# Altium schematic symbol library TRINKET_PRO.Schlib: 1 symbol
Pins are listed as number, name and electrical type; pins without a type are passive.

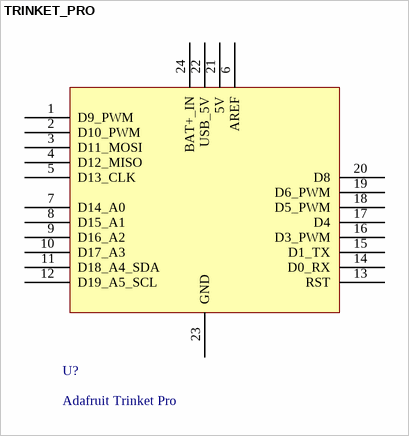
[diagram p0: symbol TRINKET_PRO]

## TRINKET_PRO
designator U?, comment Adafruit Trinket Pro
pins: 1 D9_PWM, 2 D10_PWM, 3 D11_MOSI, 4 D12_MISO, 5 D13_CLK, 6 AREF, 7 D14_A0, 8 D15_A1, 9 D16_A2, 10 D17_A3, 11 D18_A4_SDA, 12 D19_A5_SCL, 13 RST, 14 D0_RX, 15 D1_TX, 16 D3_PWM, 17 D4, 18 D5_PWM, 19 D6_PWM, 20 D8, 21 5V, 22 USB_5V, 23 GND, 24 BAT+_IN